# Altium schematic symbol library MCU_NXP_S08.SchLib: 189 symbols (part 4 of 4)
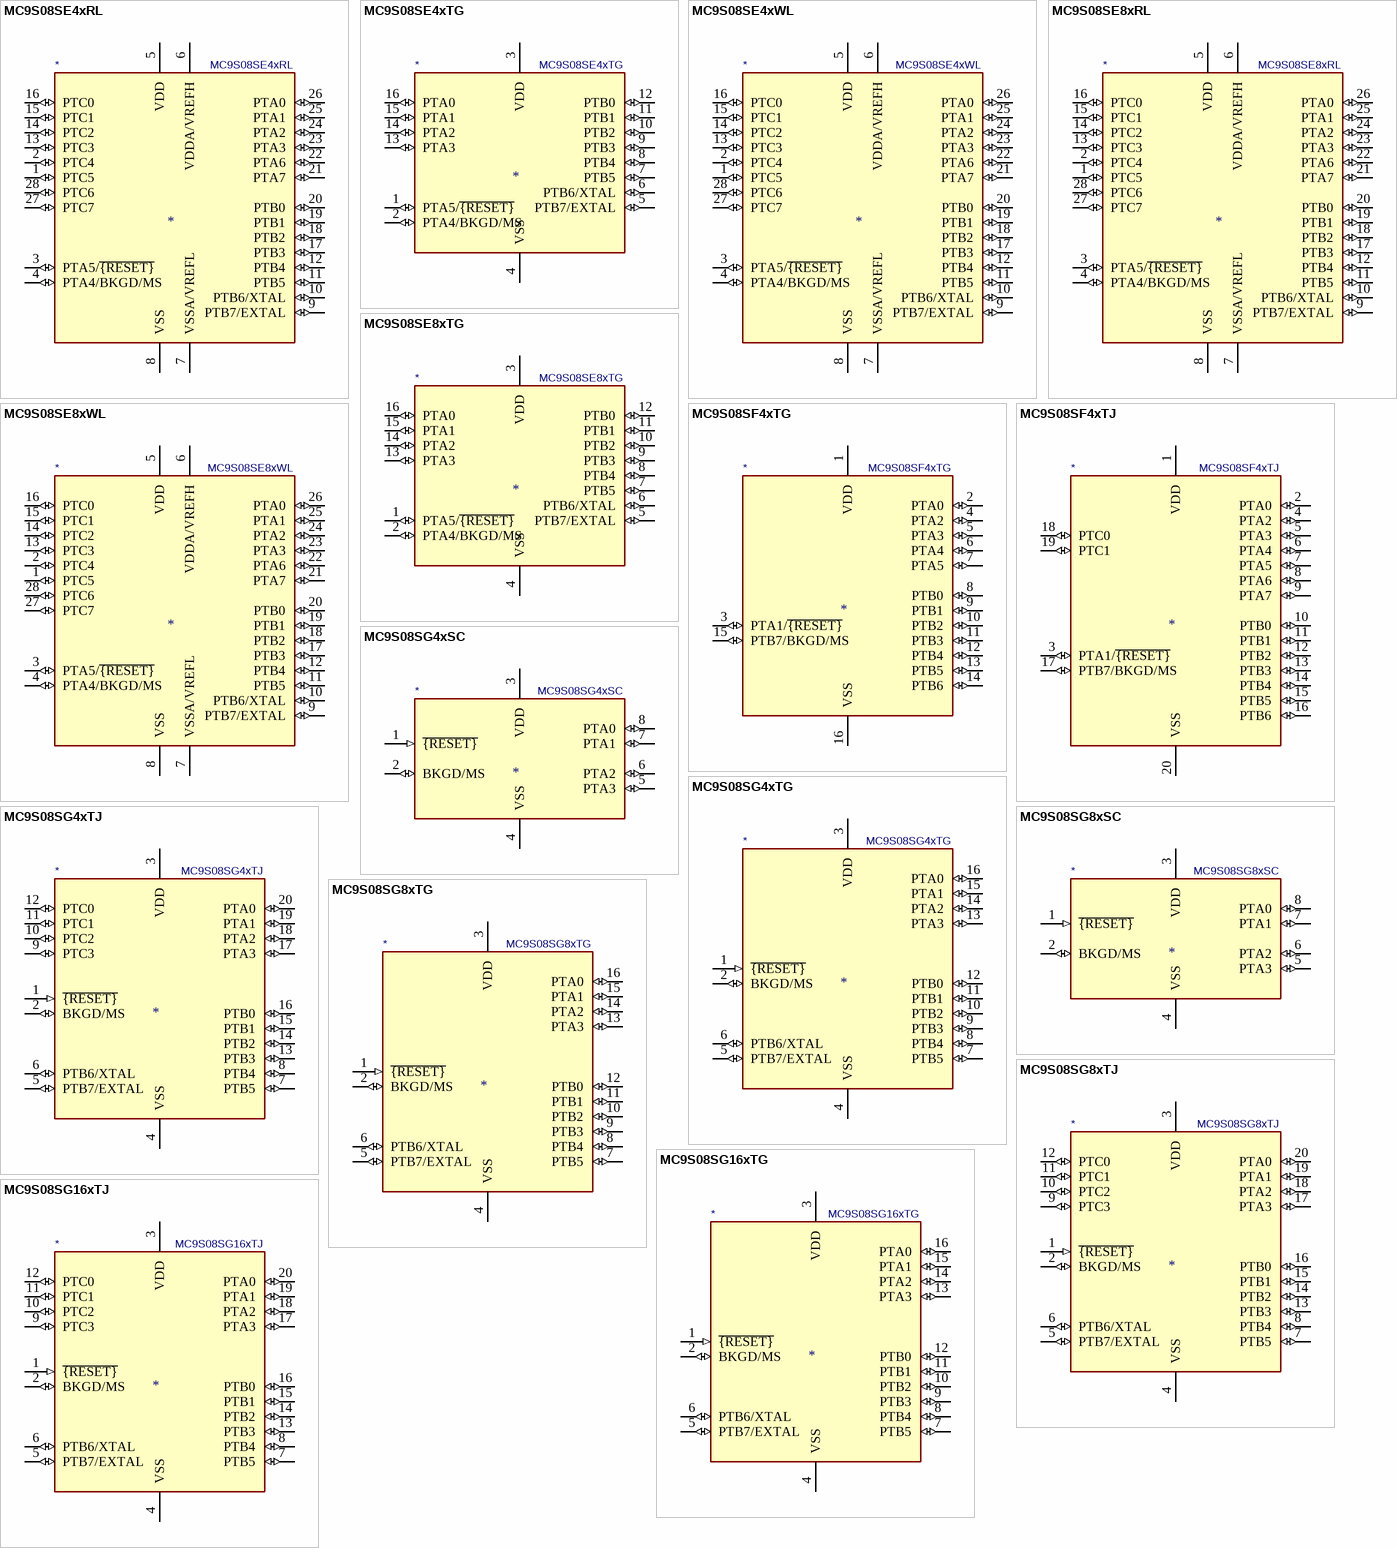
[diagram p22: symbols MC9S08SE4xRL to MC9S08SG16xTJ]

## MC9S08SE4xWL
designator *  value MC9S08SE4xWL
ki_keywords: NXP S08 Microcontroller; ki_description: 8-bit General Purpose Microcontroller, S08 core, 4kB Flash, 256B RAM, SOIC-28; ki_fp_filters: SOIC*7.5x17.9mm*P1.27mm*; Footprint: Package_SO:SOIC-28W_7.5x17.9mm_P1.27mm; Supplier: http://cache.nxp.com/files/microcontrollers/doc/ref_manual/MC9S08SE8RM.pdf
footprint SOIC-28W_7.5x17.9mm_P1.27mm
pins: 1 PTC5 (io), 2 PTC4 (io), 3 PTA5/~{{RESET}} (io), 4 PTA4/BKGD/MS (io), 5 VDD (power), 6 VDDA/VREFH (power), 7 VSSA/VREFL (power), 8 VSS (power), 9 PTB7/EXTAL (io), 10 PTB6/XTAL (io), 11 PTB5 (io), 12 PTB4 (io), 13 PTC3 (io), 14 PTC2 (io), 15 PTC1 (io), 16 PTC0 (io), 17 PTB3 (io), 18 PTB2 (io), 19 PTB1 (io), 20 PTB0 (io), 21 PTA7 (io), 22 PTA6 (io), 23 PTA3 (io), 24 PTA2 (io), 25 PTA1 (io), 26 PTA0 (io), 27 PTC7 (io), 28 PTC6 (io)

## MC9S08SE8xRL
designator *  value MC9S08SE8xRL
ki_keywords: NXP S08 Microcontroller; ki_description: 8-bit General Purpose Microcontroller, S08 core, 8kB Flash, 512B RAM, DIP-28; ki_fp_filters: DIP*15.24mm*; Footprint: Package_DIP:DIP-28_W15.24mm; Supplier: http://cache.nxp.com/files/microcontrollers/doc/ref_manual/MC9S08SE8RM.pdf
footprint DIP-28_W15.24mm
pins: 1 PTC5 (io), 2 PTC4 (io), 3 PTA5/~{{RESET}} (io), 4 PTA4/BKGD/MS (io), 5 VDD (power), 6 VDDA/VREFH (power), 7 VSSA/VREFL (power), 8 VSS (power), 9 PTB7/EXTAL (io), 10 PTB6/XTAL (io), 11 PTB5 (io), 12 PTB4 (io), 13 PTC3 (io), 14 PTC2 (io), 15 PTC1 (io), 16 PTC0 (io), 17 PTB3 (io), 18 PTB2 (io), 19 PTB1 (io), 20 PTB0 (io), 21 PTA7 (io), 22 PTA6 (io), 23 PTA3 (io), 24 PTA2 (io), 25 PTA1 (io), 26 PTA0 (io), 27 PTC7 (io), 28 PTC6 (io)

## MC9S08SE8xTG
designator *  value MC9S08SE8xTG
ki_keywords: NXP S08 Microcontroller; ki_description: 8-bit General Purpose Microcontroller, S08 core, 8kB Flash, 512B RAM, TSSOP-16; ki_fp_filters: TSSOP*4.4x5mm*P0.65mm*; Footprint: Package_SO:TSSOP-16_4.4x5mm_P0.65mm; Supplier: http://cache.nxp.com/files/microcontrollers/doc/ref_manual/MC9S08SE8RM.pdf
footprint TSSOP-16_4.4x5mm_P0.65mm
pins: 1 PTA5/~{{RESET}} (io), 2 PTA4/BKGD/MS (io), 3 VDD (power), 4 VSS (power), 5 PTB7/EXTAL (io), 6 PTB6/XTAL (io), 7 PTB5 (io), 8 PTB4 (io), 9 PTB3 (io), 10 PTB2 (io), 11 PTB1 (io), 12 PTB0 (io), 13 PTA3 (io), 14 PTA2 (io), 15 PTA1 (io), 16 PTA0 (io)

## MC9S08SE8xWL
designator *  value MC9S08SE8xWL
ki_keywords: NXP S08 Microcontroller; ki_description: 8-bit General Purpose Microcontroller, S08 core, 8kB Flash, 512B RAM, SOIC-28; ki_fp_filters: SOIC*7.5x17.9mm*P1.27mm*; Footprint: Package_SO:SOIC-28W_7.5x17.9mm_P1.27mm; Supplier: http://cache.nxp.com/files/microcontrollers/doc/ref_manual/MC9S08SE8RM.pdf
footprint SOIC-28W_7.5x17.9mm_P1.27mm
pins: 1 PTC5 (io), 2 PTC4 (io), 3 PTA5/~{{RESET}} (io), 4 PTA4/BKGD/MS (io), 5 VDD (power), 6 VDDA/VREFH (power), 7 VSSA/VREFL (power), 8 VSS (power), 9 PTB7/EXTAL (io), 10 PTB6/XTAL (io), 11 PTB5 (io), 12 PTB4 (io), 13 PTC3 (io), 14 PTC2 (io), 15 PTC1 (io), 16 PTC0 (io), 17 PTB3 (io), 18 PTB2 (io), 19 PTB1 (io), 20 PTB0 (io), 21 PTA7 (io), 22 PTA6 (io), 23 PTA3 (io), 24 PTA2 (io), 25 PTA1 (io), 26 PTA0 (io), 27 PTC7 (io), 28 PTC6 (io)

## MC9S08SF4xTG
designator *  value MC9S08SF4xTG
ki_keywords: NXP S08 Microcontroller; ki_description: 8-bit Motor Control Microcontroller, S08 core, 4kB Flash, 128B RAM, TSSOP-20; ki_fp_filters: TSSOP*4.4x5mm*P0.65mm*; Footprint: Package_SO:TSSOP-16_4.4x5mm_P0.65mm; Supplier: http://cache.nxp.com/files/microcontrollers/doc/data_sheet/MC9S08SF4RM.pdf
footprint TSSOP-16_4.4x5mm_P0.65mm
pins: 1 VDD (power), 2 PTA0 (io), 3 PTA1/~{{RESET}} (io), 4 PTA2 (io), 5 PTA3 (io), 6 PTA4 (io), 7 PTA5 (io), 8 PTB0 (io), 9 PTB1 (io), 10 PTB2 (io), 11 PTB3 (io), 12 PTB4 (io), 13 PTB5 (io), 14 PTB6 (io), 15 PTB7/BKGD/MS (io), 16 VSS (power)

## MC9S08SF4xTJ
designator *  value MC9S08SF4xTJ
ki_keywords: NXP S08 Microcontroller; ki_description: 8-bit Motor Control Microcontroller, S08 core, 4kB Flash, 128B RAM, TSSOP-20; ki_fp_filters: TSSOP*4.4x6.5mm*P0.65mm*; Footprint: Package_SO:TSSOP-20_4.4x6.5mm_P0.65mm; Supplier: http://cache.nxp.com/files/microcontrollers/doc/data_sheet/MC9S08SF4RM.pdf
footprint TSSOP-20_4.4x6.5mm_P0.65mm
pins: 1 VDD (power), 2 PTA0 (io), 3 PTA1/~{{RESET}} (io), 4 PTA2 (io), 5 PTA3 (io), 6 PTA4 (io), 7 PTA5 (io), 8 PTA6 (io), 9 PTA7 (io), 10 PTB0 (io), 11 PTB1 (io), 12 PTB2 (io), 13 PTB3 (io), 14 PTB4 (io), 15 PTB5 (io), 16 PTB6 (io), 17 PTB7/BKGD/MS (io), 18 PTC0 (io), 19 PTC1 (io), 20 VSS (power)

## MC9S08SG4xSC
designator *  value MC9S08SG4xSC
ki_keywords: NXP S08 Microcontroller; ki_description: 8-bit Small Package Microcontroller, S08 core, 4kB Flash, 256B RAM, SOIC-8; ki_fp_filters: SOIC*3.9x4.9mm*P1.27mm*; Footprint: Package_SO:SOIC-8_3.9x4.9mm_P1.27mm; Supplier: http://cache.nxp.com/files/microcontrollers/doc/data_sheet/MC9S08SG8.pdf
footprint SOIC-8_3.9x4.9mm_P1.27mm
pins: 1 ~{{RESET}} (in), 2 BKGD/MS (io), 3 VDD (power), 4 VSS (power), 5 PTA3 (io), 6 PTA2 (io), 7 PTA1 (io), 8 PTA0 (io)

## MC9S08SG4xTG
designator *  value MC9S08SG4xTG
ki_keywords: NXP S08 Microcontroller; ki_description: 8-bit Small Package Microcontroller, S08 core, 4kB Flash, 256B RAM, TSSOP-16; ki_fp_filters: TSSOP*4.4x5mm*P0.65mm*; Footprint: Package_SO:TSSOP-16_4.4x5mm_P0.65mm; Supplier: http://cache.nxp.com/files/microcontrollers/doc/data_sheet/MC9S08SG8.pdf
footprint TSSOP-16_4.4x5mm_P0.65mm
pins: 1 ~{{RESET}} (in), 2 BKGD/MS (io), 3 VDD (power), 4 VSS (power), 5 PTB7/EXTAL (io), 6 PTB6/XTAL (io), 7 PTB5 (io), 8 PTB4 (io), 9 PTB3 (io), 10 PTB2 (io), 11 PTB1 (io), 12 PTB0 (io), 13 PTA3 (io), 14 PTA2 (io), 15 PTA1 (io), 16 PTA0 (io)

## MC9S08SG4xTJ
designator *  value MC9S08SG4xTJ
ki_keywords: NXP S08 Microcontroller; ki_description: 8-bit Small Package Microcontroller, S08 core, 4kB Flash, 256B RAM, TSSOP-20; ki_fp_filters: TSSOP*4.4x6.5mm*P0.65mm*; Footprint: Package_SO:TSSOP-20_4.4x6.5mm_P0.65mm; Supplier: http://cache.nxp.com/files/microcontrollers/doc/data_sheet/MC9S08SG8.pdf
footprint TSSOP-20_4.4x6.5mm_P0.65mm
pins: 1 ~{{RESET}} (in), 2 BKGD/MS (io), 3 VDD (power), 4 VSS (power), 5 PTB7/EXTAL (io), 6 PTB6/XTAL (io), 7 PTB5 (io), 8 PTB4 (io), 9 PTC3 (io), 10 PTC2 (io), 11 PTC1 (io), 12 PTC0 (io), 13 PTB3 (io), 14 PTB2 (io), 15 PTB1 (io), 16 PTB0 (io), 17 PTA3 (io), 18 PTA2 (io), 19 PTA1 (io), 20 PTA0 (io)

## MC9S08SG8xSC
designator *  value MC9S08SG8xSC
ki_keywords: NXP S08 Microcontroller; ki_description: 8-bit Small Package Microcontroller, S08 core, 8kB Flash, 512B RAM, SOIC-8; ki_fp_filters: SOIC*3.9x4.9mm*P1.27mm*; Footprint: Package_SO:SOIC-8_3.9x4.9mm_P1.27mm; Supplier: http://cache.nxp.com/files/microcontrollers/doc/data_sheet/MC9S08SG8.pdf
footprint SOIC-8_3.9x4.9mm_P1.27mm
pins: 1 ~{{RESET}} (in), 2 BKGD/MS (io), 3 VDD (power), 4 VSS (power), 5 PTA3 (io), 6 PTA2 (io), 7 PTA1 (io), 8 PTA0 (io)

## MC9S08SG8xTG
designator *  value MC9S08SG8xTG
ki_keywords: NXP S08 Microcontroller; ki_description: 8-bit Small Package Microcontroller, S08 core, 8kB Flash, 512B RAM, TSSOP-16; ki_fp_filters: TSSOP*4.4x5mm*P0.65mm*; Footprint: Package_SO:TSSOP-16_4.4x5mm_P0.65mm; Supplier: http://cache.nxp.com/files/microcontrollers/doc/data_sheet/MC9S08SG8.pdf
footprint TSSOP-16_4.4x5mm_P0.65mm
pins: 1 ~{{RESET}} (in), 2 BKGD/MS (io), 3 VDD (power), 4 VSS (power), 5 PTB7/EXTAL (io), 6 PTB6/XTAL (io), 7 PTB5 (io), 8 PTB4 (io), 9 PTB3 (io), 10 PTB2 (io), 11 PTB1 (io), 12 PTB0 (io), 13 PTA3 (io), 14 PTA2 (io), 15 PTA1 (io), 16 PTA0 (io)

## MC9S08SG8xTJ
designator *  value MC9S08SG8xTJ
ki_keywords: NXP S08 Microcontroller; ki_description: 8-bit Small Package Microcontroller, S08 core, 8kB Flash, 512B RAM, TSSOP-20; ki_fp_filters: TSSOP*4.4x6.5mm*P0.65mm*; Footprint: Package_SO:TSSOP-20_4.4x6.5mm_P0.65mm; Supplier: http://cache.nxp.com/files/microcontrollers/doc/data_sheet/MC9S08SG8.pdf
footprint TSSOP-20_4.4x6.5mm_P0.65mm
pins: 1 ~{{RESET}} (in), 2 BKGD/MS (io), 3 VDD (power), 4 VSS (power), 5 PTB7/EXTAL (io), 6 PTB6/XTAL (io), 7 PTB5 (io), 8 PTB4 (io), 9 PTC3 (io), 10 PTC2 (io), 11 PTC1 (io), 12 PTC0 (io), 13 PTB3 (io), 14 PTB2 (io), 15 PTB1 (io), 16 PTB0 (io), 17 PTA3 (io), 18 PTA2 (io), 19 PTA1 (io), 20 PTA0 (io)

## MC9S08SG16xTG
designator *  value MC9S08SG16xTG
ki_keywords: NXP S08 Microcontroller; ki_description: 8-bit Small Package Microcontroller, S08 core, 16kB Flash, 1kB RAM, TSSOP-16; ki_fp_filters: TSSOP*4.4x5mm*P0.65mm*; Footprint: Package_SO:TSSOP-16_4.4x5mm_P0.65mm; Supplier: http://cache.nxp.com/files/microcontrollers/doc/data_sheet/MC9S08SG32.pdf
footprint TSSOP-16_4.4x5mm_P0.65mm
pins: 1 ~{{RESET}} (in), 2 BKGD/MS (io), 3 VDD (power), 4 VSS (power), 5 PTB7/EXTAL (io), 6 PTB6/XTAL (io), 7 PTB5 (io), 8 PTB4 (io), 9 PTB3 (io), 10 PTB2 (io), 11 PTB1 (io), 12 PTB0 (io), 13 PTA3 (io), 14 PTA2 (io), 15 PTA1 (io), 16 PTA0 (io)

## MC9S08SG16xTJ
designator *  value MC9S08SG16xTJ
ki_keywords: NXP S08 Microcontroller; ki_description: 8-bit Small Package Microcontroller, S08 core, 16kB Flash, 1kB RAM, TSSOP-20; ki_fp_filters: TSSOP*4.4x6.5mm*P0.65mm*; Footprint: Package_SO:TSSOP-20_4.4x6.5mm_P0.65mm; Supplier: http://cache.nxp.com/files/microcontrollers/doc/data_sheet/MC9S08SG32.pdf
footprint TSSOP-20_4.4x6.5mm_P0.65mm
pins: 1 ~{{RESET}} (in), 2 BKGD/MS (io), 3 VDD (power), 4 VSS (power), 5 PTB7/EXTAL (io), 6 PTB6/XTAL (io), 7 PTB5 (io), 8 PTB4 (io), 9 PTC3 (io), 10 PTC2 (io), 11 PTC1 (io), 12 PTC0 (io), 13 PTB3 (io), 14 PTB2 (io), 15 PTB1 (io), 16 PTB0 (io), 17 PTA3 (io), 18 PTA2 (io), 19 PTA1 (io), 20 PTA0 (io)

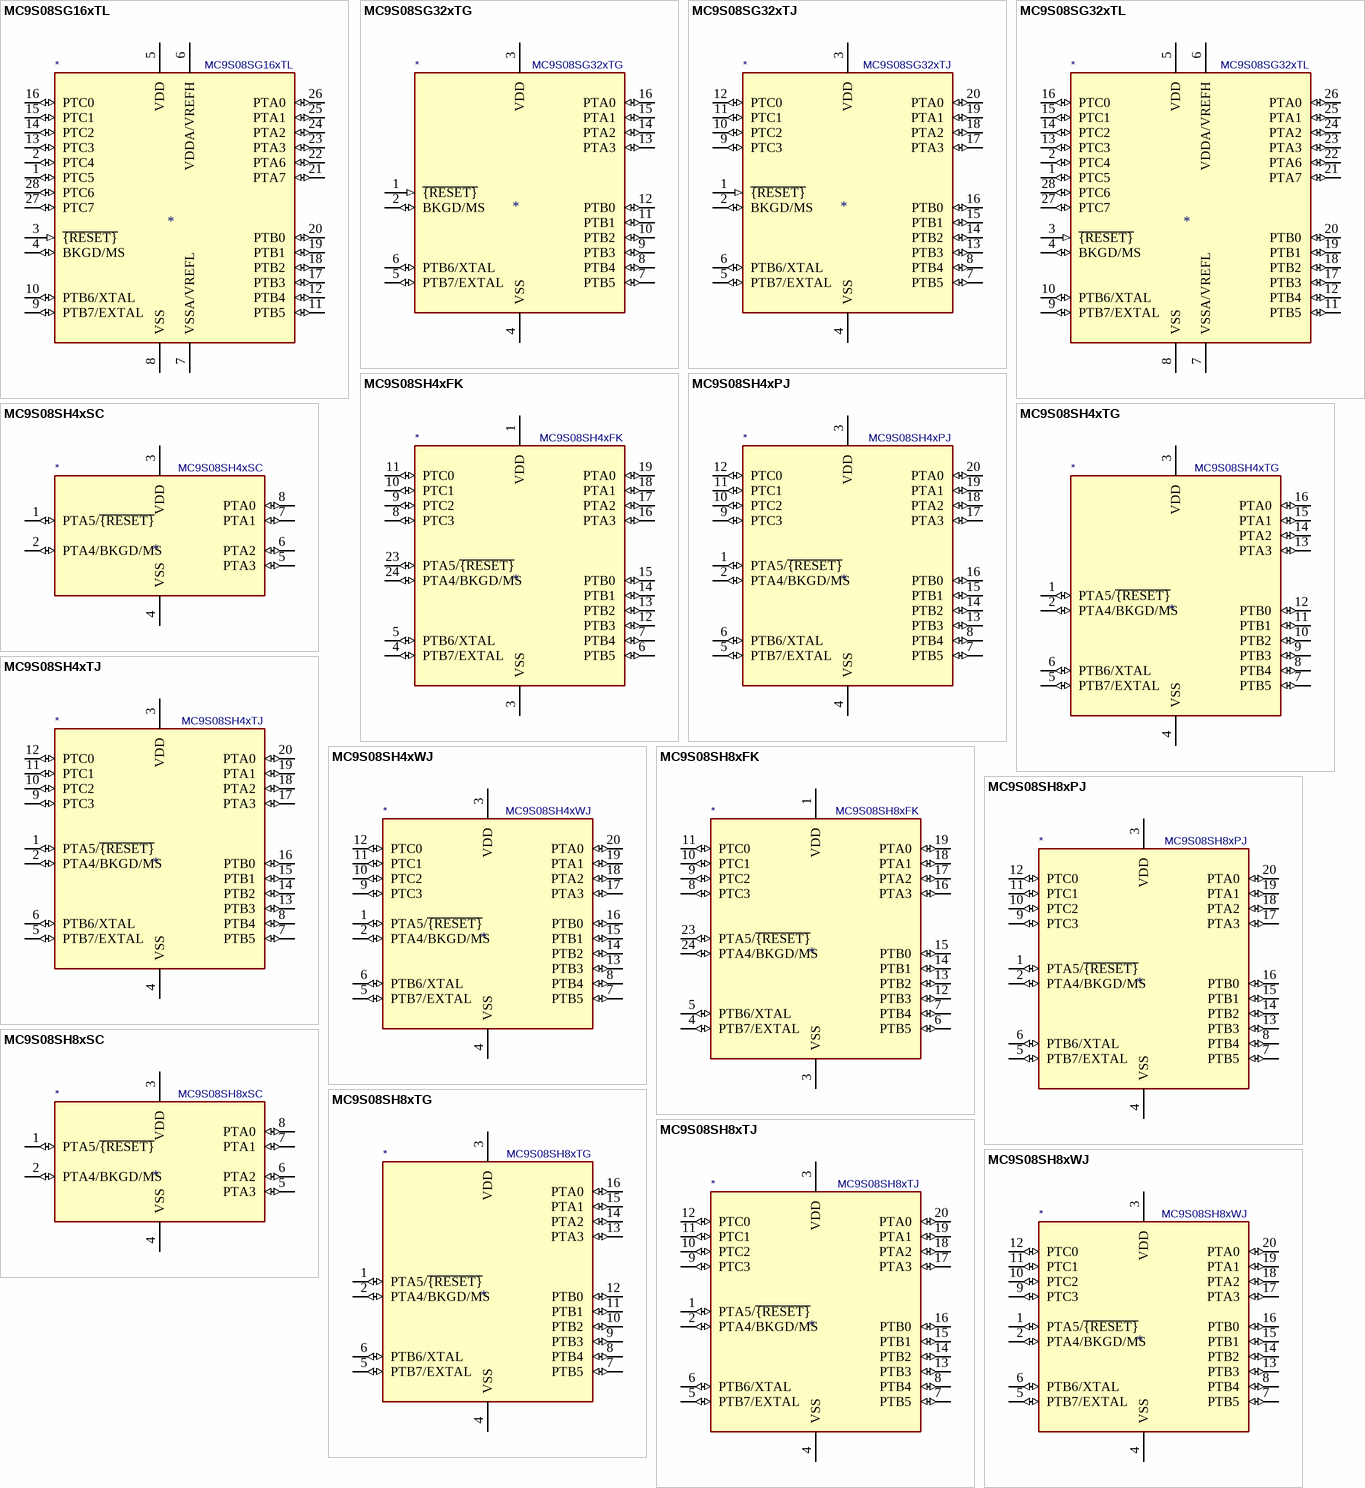
[diagram p17: symbols MC9S08SG16xTL to MC9S08SH8xWJ]

## MC9S08SG16xTL
designator *  value MC9S08SG16xTL
ki_keywords: NXP S08 Microcontroller; ki_description: 8-bit Small Package Microcontroller, S08 core, 16kB Flash, 1kB RAM, TSSOP-28; ki_fp_filters: TSSOP*4.4x9.7mm*P0.65mm*; Footprint: Package_SO:TSSOP-28_4.4x9.7mm_P0.65mm; Supplier: http://cache.nxp.com/files/microcontrollers/doc/data_sheet/MC9S08SG32.pdf
footprint TSSOP-28_4.4x9.7mm_P0.65mm
pins: 1 PTC5 (io), 2 PTC4 (io), 3 ~{{RESET}} (in), 4 BKGD/MS (io), 5 VDD (power), 6 VDDA/VREFH (power), 7 VSSA/VREFL (power), 8 VSS (power), 9 PTB7/EXTAL (io), 10 PTB6/XTAL (io), 11 PTB5 (io), 12 PTB4 (io), 13 PTC3 (io), 14 PTC2 (io), 15 PTC1 (io), 16 PTC0 (io), 17 PTB3 (io), 18 PTB2 (io), 19 PTB1 (io), 20 PTB0 (io), 21 PTA7 (io), 22 PTA6 (io), 23 PTA3 (io), 24 PTA2 (io), 25 PTA1 (io), 26 PTA0 (io), 27 PTC7 (io), 28 PTC6 (io)

## MC9S08SG32xTG
designator *  value MC9S08SG32xTG
ki_keywords: NXP S08 Microcontroller; ki_description: 8-bit Small Package Microcontroller, S08 core, 32kB Flash, 1kB RAM, TSSOP-16; ki_fp_filters: TSSOP*4.4x5mm*P0.65mm*; Footprint: Package_SO:TSSOP-16_4.4x5mm_P0.65mm; Supplier: http://cache.nxp.com/files/microcontrollers/doc/data_sheet/MC9S08SG32.pdf
footprint TSSOP-16_4.4x5mm_P0.65mm
pins: 1 ~{{RESET}} (in), 2 BKGD/MS (io), 3 VDD (power), 4 VSS (power), 5 PTB7/EXTAL (io), 6 PTB6/XTAL (io), 7 PTB5 (io), 8 PTB4 (io), 9 PTB3 (io), 10 PTB2 (io), 11 PTB1 (io), 12 PTB0 (io), 13 PTA3 (io), 14 PTA2 (io), 15 PTA1 (io), 16 PTA0 (io)

## MC9S08SG32xTJ
designator *  value MC9S08SG32xTJ
ki_keywords: NXP S08 Microcontroller; ki_description: 8-bit Small Package Microcontroller, S08 core, 32kB Flash, 1kB RAM, TSSOP-20; ki_fp_filters: TSSOP*4.4x6.5mm*P0.65mm*; Footprint: Package_SO:TSSOP-20_4.4x6.5mm_P0.65mm; Supplier: http://cache.nxp.com/files/microcontrollers/doc/data_sheet/MC9S08SG32.pdf
footprint TSSOP-20_4.4x6.5mm_P0.65mm
pins: 1 ~{{RESET}} (in), 2 BKGD/MS (io), 3 VDD (power), 4 VSS (power), 5 PTB7/EXTAL (io), 6 PTB6/XTAL (io), 7 PTB5 (io), 8 PTB4 (io), 9 PTC3 (io), 10 PTC2 (io), 11 PTC1 (io), 12 PTC0 (io), 13 PTB3 (io), 14 PTB2 (io), 15 PTB1 (io), 16 PTB0 (io), 17 PTA3 (io), 18 PTA2 (io), 19 PTA1 (io), 20 PTA0 (io)

## MC9S08SG32xTL
designator *  value MC9S08SG32xTL
ki_keywords: NXP S08 Microcontroller; ki_description: 8-bit Small Package Microcontroller, S08 core, 32kB Flash, 1kB RAM, TSSOP-28; ki_fp_filters: TSSOP*4.4x9.7mm*P0.65mm*; Footprint: Package_SO:TSSOP-28_4.4x9.7mm_P0.65mm; Supplier: http://cache.nxp.com/files/microcontrollers/doc/data_sheet/MC9S08SG32.pdf
footprint TSSOP-28_4.4x9.7mm_P0.65mm
pins: 1 PTC5 (io), 2 PTC4 (io), 3 ~{{RESET}} (in), 4 BKGD/MS (io), 5 VDD (power), 6 VDDA/VREFH (power), 7 VSSA/VREFL (power), 8 VSS (power), 9 PTB7/EXTAL (io), 10 PTB6/XTAL (io), 11 PTB5 (io), 12 PTB4 (io), 13 PTC3 (io), 14 PTC2 (io), 15 PTC1 (io), 16 PTC0 (io), 17 PTB3 (io), 18 PTB2 (io), 19 PTB1 (io), 20 PTB0 (io), 21 PTA7 (io), 22 PTA6 (io), 23 PTA3 (io), 24 PTA2 (io), 25 PTA1 (io), 26 PTA0 (io), 27 PTC7 (io), 28 PTC6 (io)

## MC9S08SH4xFK
designator *  value MC9S08SH4xFK
ki_keywords: NXP S08 Microcontroller; ki_description: 8-bit General Purpose Microcontroller, S08 core, 4kB Flash, 256B RAM, QFN-24; ki_fp_filters: QFN*4x4mm*P0.5mm*; Footprint: Package_DFN_QFN:QFN-24-1EP_4x4mm_P0.5mm_EP2.6x2.6mm; Supplier: http://cache.nxp.com/files/microcontrollers/doc/data_sheet/MC9S08SH8.pdf
footprint QFN-24-1EP_4x4mm_P0.5mm_EP2.6x2.6mm
pins: 1 VDD (power), 3 VSS (power), 4 PTB7/EXTAL (io), 5 PTB6/XTAL (io), 6 PTB5 (io), 7 PTB4 (io), 8 PTC3 (io), 9 PTC2 (io), 10 PTC1 (io), 11 PTC0 (io), 12 PTB3 (io), 13 PTB2 (io), 14 PTB1 (io), 15 PTB0 (io), 16 PTA3 (io), 17 PTA2 (io), 18 PTA1 (io), 19 PTA0 (io), 23 PTA5/~{{RESET}} (io), 24 PTA4/BKGD/MS (io)

## MC9S08SH4xPJ
designator *  value MC9S08SH4xPJ
ki_keywords: NXP S08 Microcontroller; ki_description: 8-bit General Purpose Microcontroller, S08 core, 4kB Flash, 256B RAM, DIP-20; ki_fp_filters: DIP*7.62mm*; Footprint: Package_DIP:DIP-20_W7.62mm; Supplier: http://cache.nxp.com/files/microcontrollers/doc/data_sheet/MC9S08SH8.pdf
footprint DIP-20_W7.62mm
pins: 1 PTA5/~{{RESET}} (io), 2 PTA4/BKGD/MS (io), 3 VDD (power), 4 VSS (power), 5 PTB7/EXTAL (io), 6 PTB6/XTAL (io), 7 PTB5 (io), 8 PTB4 (io), 9 PTC3 (io), 10 PTC2 (io), 11 PTC1 (io), 12 PTC0 (io), 13 PTB3 (io), 14 PTB2 (io), 15 PTB1 (io), 16 PTB0 (io), 17 PTA3 (io), 18 PTA2 (io), 19 PTA1 (io), 20 PTA0 (io)

## MC9S08SH4xSC
designator *  value MC9S08SH4xSC
ki_keywords: NXP S08 Microcontroller; ki_description: 8-bit General Purpose Microcontroller, S08 core, 4kB Flash, 256B RAM, SOIC-8; ki_fp_filters: SOIC*3.9x4.9mm*P1.27mm*; Footprint: Package_SO:SOIC-8_3.9x4.9mm_P1.27mm; Supplier: http://cache.nxp.com/files/microcontrollers/doc/data_sheet/MC9S08SH8.pdf
footprint SOIC-8_3.9x4.9mm_P1.27mm
pins: 1 PTA5/~{{RESET}} (io), 2 PTA4/BKGD/MS (io), 3 VDD (power), 4 VSS (power), 5 PTA3 (io), 6 PTA2 (io), 7 PTA1 (io), 8 PTA0 (io)

## MC9S08SH4xTG
designator *  value MC9S08SH4xTG
ki_keywords: NXP S08 Microcontroller; ki_description: 8-bit General Purpose Microcontroller, S08 core, 4kB Flash, 256B RAM, TSSOP-16; ki_fp_filters: TSSOP*4.4x5mm*P0.65mm*; Footprint: Package_SO:TSSOP-16_4.4x5mm_P0.65mm; Supplier: http://cache.nxp.com/files/microcontrollers/doc/data_sheet/MC9S08SH8.pdf
footprint TSSOP-16_4.4x5mm_P0.65mm
pins: 1 PTA5/~{{RESET}} (io), 2 PTA4/BKGD/MS (io), 3 VDD (power), 4 VSS (power), 5 PTB7/EXTAL (io), 6 PTB6/XTAL (io), 7 PTB5 (io), 8 PTB4 (io), 9 PTB3 (io), 10 PTB2 (io), 11 PTB1 (io), 12 PTB0 (io), 13 PTA3 (io), 14 PTA2 (io), 15 PTA1 (io), 16 PTA0 (io)

## MC9S08SH4xTJ
designator *  value MC9S08SH4xTJ
ki_keywords: NXP S08 Microcontroller; ki_description: 8-bit General Purpose Microcontroller, S08 core, 4kB Flash, 256B RAM, TSSOP-20; ki_fp_filters: TSSOP*4.4x6.5mm*P0.65mm*; Footprint: Package_SO:TSSOP-20_4.4x6.5mm_P0.65mm; Supplier: http://cache.nxp.com/files/microcontrollers/doc/data_sheet/MC9S08SH8.pdf
footprint TSSOP-20_4.4x6.5mm_P0.65mm
pins: 1 PTA5/~{{RESET}} (io), 2 PTA4/BKGD/MS (io), 3 VDD (power), 4 VSS (power), 5 PTB7/EXTAL (io), 6 PTB6/XTAL (io), 7 PTB5 (io), 8 PTB4 (io), 9 PTC3 (io), 10 PTC2 (io), 11 PTC1 (io), 12 PTC0 (io), 13 PTB3 (io), 14 PTB2 (io), 15 PTB1 (io), 16 PTB0 (io), 17 PTA3 (io), 18 PTA2 (io), 19 PTA1 (io), 20 PTA0 (io)

## MC9S08SH4xWJ
designator *  value MC9S08SH4xWJ
ki_keywords: NXP S08 Microcontroller; ki_description: 8-bit General Purpose Microcontroller, S08 core, 4kB Flash, 256B RAM, SOIC-20; ki_fp_filters: SOIC*7.5x12.8mm*P1.27mm*; Footprint: Package_SO:SOIC-20W_7.5x12.8mm_P1.27mm; Supplier: http://cache.nxp.com/files/microcontrollers/doc/data_sheet/MC9S08SH8.pdf
footprint SOIC-20W_7.5x12.8mm_P1.27mm
pins: 1 PTA5/~{{RESET}} (io), 2 PTA4/BKGD/MS (io), 3 VDD (power), 4 VSS (power), 5 PTB7/EXTAL (io), 6 PTB6/XTAL (io), 7 PTB5 (io), 8 PTB4 (io), 9 PTC3 (io), 10 PTC2 (io), 11 PTC1 (io), 12 PTC0 (io), 13 PTB3 (io), 14 PTB2 (io), 15 PTB1 (io), 16 PTB0 (io), 17 PTA3 (io), 18 PTA2 (io), 19 PTA1 (io), 20 PTA0 (io)

## MC9S08SH8xFK
designator *  value MC9S08SH8xFK
ki_keywords: NXP S08 Microcontroller; ki_description: 8-bit General Purpose Microcontroller, S08 core, 8kB Flash, 512B RAM, QFN-24; ki_fp_filters: QFN*4x4mm*P0.5mm*; Footprint: Package_DFN_QFN:QFN-24-1EP_4x4mm_P0.5mm_EP2.6x2.6mm; Supplier: http://cache.nxp.com/files/microcontrollers/doc/data_sheet/MC9S08SH8.pdf
footprint QFN-24-1EP_4x4mm_P0.5mm_EP2.6x2.6mm
pins: 1 VDD (power), 3 VSS (power), 4 PTB7/EXTAL (io), 5 PTB6/XTAL (io), 6 PTB5 (io), 7 PTB4 (io), 8 PTC3 (io), 9 PTC2 (io), 10 PTC1 (io), 11 PTC0 (io), 12 PTB3 (io), 13 PTB2 (io), 14 PTB1 (io), 15 PTB0 (io), 16 PTA3 (io), 17 PTA2 (io), 18 PTA1 (io), 19 PTA0 (io), 23 PTA5/~{{RESET}} (io), 24 PTA4/BKGD/MS (io)

## MC9S08SH8xPJ
designator *  value MC9S08SH8xPJ
ki_keywords: NXP S08 Microcontroller; ki_description: 8-bit General Purpose Microcontroller, S08 core, 8kB Flash, 512B RAM, DIP-20; ki_fp_filters: DIP*7.62mm*; Footprint: Package_DIP:DIP-20_W7.62mm; Supplier: http://cache.nxp.com/files/microcontrollers/doc/data_sheet/MC9S08SH8.pdf
footprint DIP-20_W7.62mm
pins: 1 PTA5/~{{RESET}} (io), 2 PTA4/BKGD/MS (io), 3 VDD (power), 4 VSS (power), 5 PTB7/EXTAL (io), 6 PTB6/XTAL (io), 7 PTB5 (io), 8 PTB4 (io), 9 PTC3 (io), 10 PTC2 (io), 11 PTC1 (io), 12 PTC0 (io), 13 PTB3 (io), 14 PTB2 (io), 15 PTB1 (io), 16 PTB0 (io), 17 PTA3 (io), 18 PTA2 (io), 19 PTA1 (io), 20 PTA0 (io)

## MC9S08SH8xSC
designator *  value MC9S08SH8xSC
ki_keywords: NXP S08 Microcontroller; ki_description: 8-bit General Purpose Microcontroller, S08 core, 8kB Flash, 512B RAM, SOIC-8; ki_fp_filters: SOIC*3.9x4.9mm*P1.27mm*; Footprint: Package_SO:SOIC-8_3.9x4.9mm_P1.27mm; Supplier: http://cache.nxp.com/files/microcontrollers/doc/data_sheet/MC9S08SH8.pdf
footprint SOIC-8_3.9x4.9mm_P1.27mm
pins: 1 PTA5/~{{RESET}} (io), 2 PTA4/BKGD/MS (io), 3 VDD (power), 4 VSS (power), 5 PTA3 (io), 6 PTA2 (io), 7 PTA1 (io), 8 PTA0 (io)

## MC9S08SH8xTG
designator *  value MC9S08SH8xTG
ki_keywords: NXP S08 Microcontroller; ki_description: 8-bit General Purpose Microcontroller, S08 core, 8kB Flash, 512B RAM, TSSOP-16; ki_fp_filters: TSSOP*4.4x5mm*P0.65mm*; Footprint: Package_SO:TSSOP-16_4.4x5mm_P0.65mm; Supplier: http://cache.nxp.com/files/microcontrollers/doc/data_sheet/MC9S08SH8.pdf
footprint TSSOP-16_4.4x5mm_P0.65mm
pins: 1 PTA5/~{{RESET}} (io), 2 PTA4/BKGD/MS (io), 3 VDD (power), 4 VSS (power), 5 PTB7/EXTAL (io), 6 PTB6/XTAL (io), 7 PTB5 (io), 8 PTB4 (io), 9 PTB3 (io), 10 PTB2 (io), 11 PTB1 (io), 12 PTB0 (io), 13 PTA3 (io), 14 PTA2 (io), 15 PTA1 (io), 16 PTA0 (io)

## MC9S08SH8xTJ
designator *  value MC9S08SH8xTJ
ki_keywords: NXP S08 Microcontroller; ki_description: 8-bit General Purpose Microcontroller, S08 core, 8kB Flash, 512B RAM, TSSOP-20; ki_fp_filters: TSSOP*4.4x6.5mm*P0.65mm*; Footprint: Package_SO:TSSOP-20_4.4x6.5mm_P0.65mm; Supplier: http://cache.nxp.com/files/microcontrollers/doc/data_sheet/MC9S08SH8.pdf
footprint TSSOP-20_4.4x6.5mm_P0.65mm
pins: 1 PTA5/~{{RESET}} (io), 2 PTA4/BKGD/MS (io), 3 VDD (power), 4 VSS (power), 5 PTB7/EXTAL (io), 6 PTB6/XTAL (io), 7 PTB5 (io), 8 PTB4 (io), 9 PTC3 (io), 10 PTC2 (io), 11 PTC1 (io), 12 PTC0 (io), 13 PTB3 (io), 14 PTB2 (io), 15 PTB1 (io), 16 PTB0 (io), 17 PTA3 (io), 18 PTA2 (io), 19 PTA1 (io), 20 PTA0 (io)

## MC9S08SH8xWJ
designator *  value MC9S08SH8xWJ
ki_keywords: NXP S08 Microcontroller; ki_description: 8-bit General Purpose Microcontroller, S08 core, 8kB Flash, 512B RAM, SOIC-20; ki_fp_filters: SOIC*7.5x12.8mm*P1.27mm*; Footprint: Package_SO:SOIC-20W_7.5x12.8mm_P1.27mm; Supplier: http://cache.nxp.com/files/microcontrollers/doc/data_sheet/MC9S08SH8.pdf
footprint SOIC-20W_7.5x12.8mm_P1.27mm
pins: 1 PTA5/~{{RESET}} (io), 2 PTA4/BKGD/MS (io), 3 VDD (power), 4 VSS (power), 5 PTB7/EXTAL (io), 6 PTB6/XTAL (io), 7 PTB5 (io), 8 PTB4 (io), 9 PTC3 (io), 10 PTC2 (io), 11 PTC1 (io), 12 PTC0 (io), 13 PTB3 (io), 14 PTB2 (io), 15 PTB1 (io), 16 PTB0 (io), 17 PTA3 (io), 18 PTA2 (io), 19 PTA1 (io), 20 PTA0 (io)

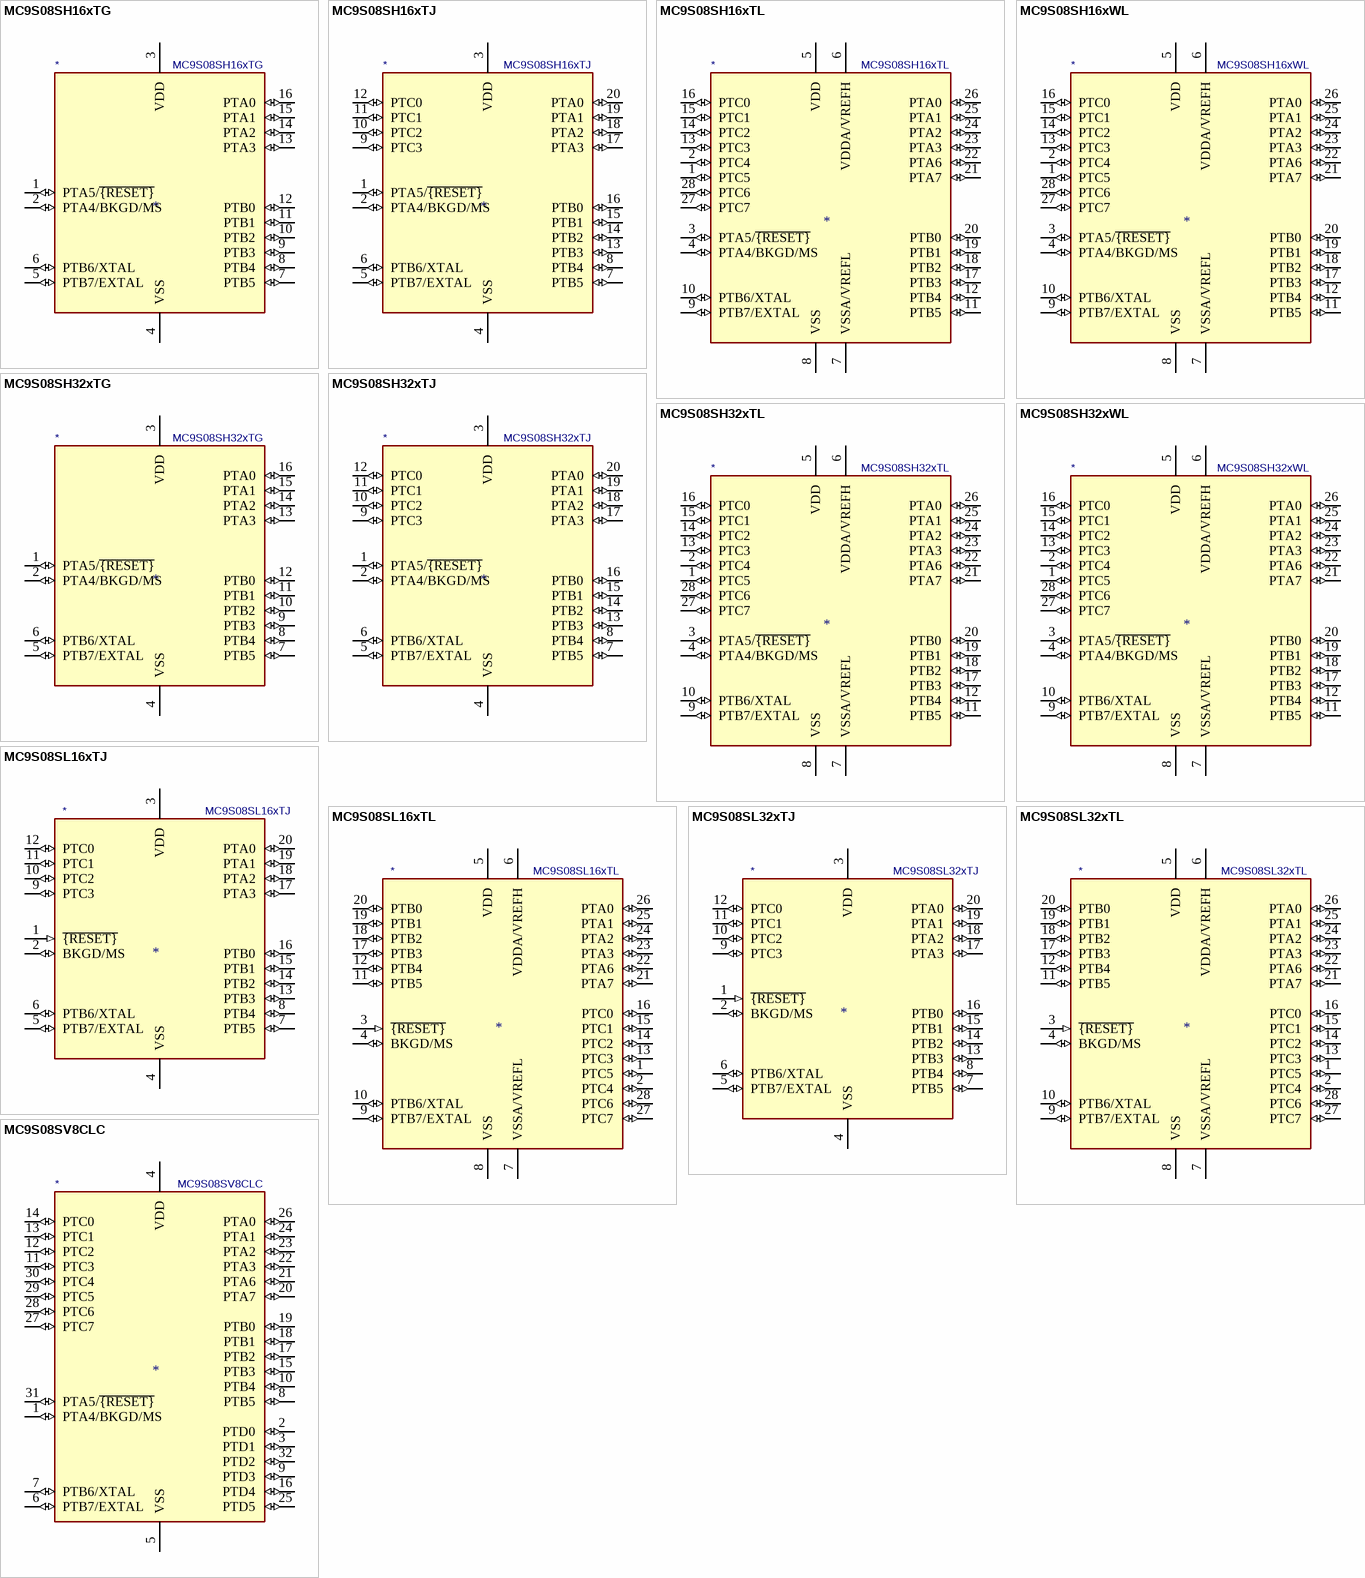
[diagram p18: symbols MC9S08SH16xTG to MC9S08SV8CLC]

## MC9S08SH16xTG
designator *  value MC9S08SH16xTG
ki_keywords: NXP S08 Microcontroller; ki_description: 8-bit General Purpose Microcontroller, S08 core, 16kB Flash, 1kB RAM, TSSOP-16; ki_fp_filters: TSSOP*4.4x5mm*P0.65mm*; Footprint: Package_SO:TSSOP-16_4.4x5mm_P0.65mm; Supplier: http://cache.nxp.com/files/microcontrollers/doc/data_sheet/MC9S08SH32.pdf
footprint TSSOP-16_4.4x5mm_P0.65mm
pins: 1 PTA5/~{{RESET}} (io), 2 PTA4/BKGD/MS (io), 3 VDD (power), 4 VSS (power), 5 PTB7/EXTAL (io), 6 PTB6/XTAL (io), 7 PTB5 (io), 8 PTB4 (io), 9 PTB3 (io), 10 PTB2 (io), 11 PTB1 (io), 12 PTB0 (io), 13 PTA3 (io), 14 PTA2 (io), 15 PTA1 (io), 16 PTA0 (io)

## MC9S08SH16xTJ
designator *  value MC9S08SH16xTJ
ki_keywords: NXP S08 Microcontroller; ki_description: 8-bit General Purpose Microcontroller, S08 core, 16kB Flash, 1kB RAM, TSSOP-20; ki_fp_filters: TSSOP*4.4x6.5mm*P0.65mm*; Footprint: Package_SO:TSSOP-20_4.4x6.5mm_P0.65mm; Supplier: http://cache.nxp.com/files/microcontrollers/doc/data_sheet/MC9S08SH32.pdf
footprint TSSOP-20_4.4x6.5mm_P0.65mm
pins: 1 PTA5/~{{RESET}} (io), 2 PTA4/BKGD/MS (io), 3 VDD (power), 4 VSS (power), 5 PTB7/EXTAL (io), 6 PTB6/XTAL (io), 7 PTB5 (io), 8 PTB4 (io), 9 PTC3 (io), 10 PTC2 (io), 11 PTC1 (io), 12 PTC0 (io), 13 PTB3 (io), 14 PTB2 (io), 15 PTB1 (io), 16 PTB0 (io), 17 PTA3 (io), 18 PTA2 (io), 19 PTA1 (io), 20 PTA0 (io)

## MC9S08SH16xTL
designator *  value MC9S08SH16xTL
ki_keywords: NXP S08 Microcontroller; ki_description: 8-bit General Purpose Microcontroller, S08 core, 16kB Flash, 1kB RAM, TSSOP-28; ki_fp_filters: TSSOP*4.4x9.7mm*P0.65mm*; Footprint: Package_SO:TSSOP-28_4.4x9.7mm_P0.65mm; Supplier: http://cache.nxp.com/files/microcontrollers/doc/data_sheet/MC9S08SH32.pdf
footprint TSSOP-28_4.4x9.7mm_P0.65mm
pins: 1 PTC5 (io), 2 PTC4 (io), 3 PTA5/~{{RESET}} (io), 4 PTA4/BKGD/MS (io), 5 VDD (power), 6 VDDA/VREFH (power), 7 VSSA/VREFL (power), 8 VSS (power), 9 PTB7/EXTAL (io), 10 PTB6/XTAL (io), 11 PTB5 (io), 12 PTB4 (io), 13 PTC3 (io), 14 PTC2 (io), 15 PTC1 (io), 16 PTC0 (io), 17 PTB3 (io), 18 PTB2 (io), 19 PTB1 (io), 20 PTB0 (io), 21 PTA7 (io), 22 PTA6 (io), 23 PTA3 (io), 24 PTA2 (io), 25 PTA1 (io), 26 PTA0 (io), 27 PTC7 (io), 28 PTC6 (io)

## MC9S08SH16xWL
designator *  value MC9S08SH16xWL
ki_keywords: NXP S08 Microcontroller; ki_description: 8-bit General Purpose Microcontroller, S08 core, 16kB Flash, 1kB RAM, SOIC-28; ki_fp_filters: SOIC*7.5x17.9mm*P1.27mm*; Footprint: Package_SO:SOIC-28W_7.5x17.9mm_P1.27mm; Supplier: http://cache.nxp.com/files/microcontrollers/doc/data_sheet/MC9S08SH32.pdf
footprint SOIC-28W_7.5x17.9mm_P1.27mm
pins: 1 PTC5 (io), 2 PTC4 (io), 3 PTA5/~{{RESET}} (io), 4 PTA4/BKGD/MS (io), 5 VDD (power), 6 VDDA/VREFH (power), 7 VSSA/VREFL (power), 8 VSS (power), 9 PTB7/EXTAL (io), 10 PTB6/XTAL (io), 11 PTB5 (io), 12 PTB4 (io), 13 PTC3 (io), 14 PTC2 (io), 15 PTC1 (io), 16 PTC0 (io), 17 PTB3 (io), 18 PTB2 (io), 19 PTB1 (io), 20 PTB0 (io), 21 PTA7 (io), 22 PTA6 (io), 23 PTA3 (io), 24 PTA2 (io), 25 PTA1 (io), 26 PTA0 (io), 27 PTC7 (io), 28 PTC6 (io)

## MC9S08SH32xTG
designator *  value MC9S08SH32xTG
ki_keywords: NXP S08 Microcontroller; ki_description: 8-bit General Purpose Microcontroller, S08 core, 32kB Flash, 1kB RAM, TSSOP-16; ki_fp_filters: TSSOP*4.4x5mm*P0.65mm*; Footprint: Package_SO:TSSOP-16_4.4x5mm_P0.65mm; Supplier: http://cache.nxp.com/files/microcontrollers/doc/data_sheet/MC9S08SH32.pdf
footprint TSSOP-16_4.4x5mm_P0.65mm
pins: 1 PTA5/~{{RESET}} (io), 2 PTA4/BKGD/MS (io), 3 VDD (power), 4 VSS (power), 5 PTB7/EXTAL (io), 6 PTB6/XTAL (io), 7 PTB5 (io), 8 PTB4 (io), 9 PTB3 (io), 10 PTB2 (io), 11 PTB1 (io), 12 PTB0 (io), 13 PTA3 (io), 14 PTA2 (io), 15 PTA1 (io), 16 PTA0 (io)

## MC9S08SH32xTJ
designator *  value MC9S08SH32xTJ
ki_keywords: NXP S08 Microcontroller; ki_description: 8-bit General Purpose Microcontroller, S08 core, 32kB Flash, 1kB RAM, TSSOP-20; ki_fp_filters: TSSOP*4.4x6.5mm*P0.65mm*; Footprint: Package_SO:TSSOP-20_4.4x6.5mm_P0.65mm; Supplier: http://cache.nxp.com/files/microcontrollers/doc/data_sheet/MC9S08SH32.pdf
footprint TSSOP-20_4.4x6.5mm_P0.65mm
pins: 1 PTA5/~{{RESET}} (io), 2 PTA4/BKGD/MS (io), 3 VDD (power), 4 VSS (power), 5 PTB7/EXTAL (io), 6 PTB6/XTAL (io), 7 PTB5 (io), 8 PTB4 (io), 9 PTC3 (io), 10 PTC2 (io), 11 PTC1 (io), 12 PTC0 (io), 13 PTB3 (io), 14 PTB2 (io), 15 PTB1 (io), 16 PTB0 (io), 17 PTA3 (io), 18 PTA2 (io), 19 PTA1 (io), 20 PTA0 (io)

## MC9S08SH32xTL
designator *  value MC9S08SH32xTL
ki_keywords: NXP S08 Microcontroller; ki_description: 8-bit General Purpose Microcontroller, S08 core, 32kB Flash, 1kB RAM, TSSOP-28; ki_fp_filters: TSSOP*4.4x9.7mm*P0.65mm*; Footprint: Package_SO:TSSOP-28_4.4x9.7mm_P0.65mm; Supplier: http://cache.nxp.com/files/microcontrollers/doc/data_sheet/MC9S08SH32.pdf
footprint TSSOP-28_4.4x9.7mm_P0.65mm
pins: 1 PTC5 (io), 2 PTC4 (io), 3 PTA5/~{{RESET}} (io), 4 PTA4/BKGD/MS (io), 5 VDD (power), 6 VDDA/VREFH (power), 7 VSSA/VREFL (power), 8 VSS (power), 9 PTB7/EXTAL (io), 10 PTB6/XTAL (io), 11 PTB5 (io), 12 PTB4 (io), 13 PTC3 (io), 14 PTC2 (io), 15 PTC1 (io), 16 PTC0 (io), 17 PTB3 (io), 18 PTB2 (io), 19 PTB1 (io), 20 PTB0 (io), 21 PTA7 (io), 22 PTA6 (io), 23 PTA3 (io), 24 PTA2 (io), 25 PTA1 (io), 26 PTA0 (io), 27 PTC7 (io), 28 PTC6 (io)

## MC9S08SH32xWL
designator *  value MC9S08SH32xWL
ki_keywords: NXP S08 Microcontroller; ki_description: 8-bit General Purpose Microcontroller, S08 core, 32kB Flash, 1kB RAM, SOIC-28; ki_fp_filters: SOIC*7.5x17.9mm*P1.27mm*; Footprint: Package_SO:SOIC-28W_7.5x17.9mm_P1.27mm; Supplier: http://cache.nxp.com/files/microcontrollers/doc/data_sheet/MC9S08SH32.pdf
footprint SOIC-28W_7.5x17.9mm_P1.27mm
pins: 1 PTC5 (io), 2 PTC4 (io), 3 PTA5/~{{RESET}} (io), 4 PTA4/BKGD/MS (io), 5 VDD (power), 6 VDDA/VREFH (power), 7 VSSA/VREFL (power), 8 VSS (power), 9 PTB7/EXTAL (io), 10 PTB6/XTAL (io), 11 PTB5 (io), 12 PTB4 (io), 13 PTC3 (io), 14 PTC2 (io), 15 PTC1 (io), 16 PTC0 (io), 17 PTB3 (io), 18 PTB2 (io), 19 PTB1 (io), 20 PTB0 (io), 21 PTA7 (io), 22 PTA6 (io), 23 PTA3 (io), 24 PTA2 (io), 25 PTA1 (io), 26 PTA0 (io), 27 PTC7 (io), 28 PTC6 (io)

## MC9S08SL16xTJ
designator *  value MC9S08SL16xTJ
ki_keywords: NXP S08 Microcontroller; ki_description: 8-bit EEPROM with LIN Microcontroller, S08 core, 16kB Flash, 512B RAM, 256B EEPROM, TSSOP-20; ki_fp_filters: TSSOP*4.4x6.5mm*P0.65mm*; Footprint: Package_SO:TSSOP-20_4.4x6.5mm_P0.65mm; Supplier: http://cache.nxp.com/files/microcontrollers/doc/data_sheet/MC9S08EL32.pdf
footprint TSSOP-20_4.4x6.5mm_P0.65mm
pins: 1 ~{{RESET}} (in), 2 BKGD/MS (io), 3 VDD (power), 4 VSS (power), 5 PTB7/EXTAL (io), 6 PTB6/XTAL (io), 7 PTB5 (io), 8 PTB4 (io), 9 PTC3 (io), 10 PTC2 (io), 11 PTC1 (io), 12 PTC0 (io), 13 PTB3 (io), 14 PTB2 (io), 15 PTB1 (io), 16 PTB0 (io), 17 PTA3 (io), 18 PTA2 (io), 19 PTA1 (io), 20 PTA0 (io)

## MC9S08SL16xTL
designator *  value MC9S08SL16xTL
ki_keywords: NXP S08 Microcontroller; ki_description: 8-bit EEPROM with LIN Microcontroller, S08 core, 16kB Flash, 512B RAM, 256B EEPROM, TSSOP-28; ki_fp_filters: TSSOP*4.4x9.7mm*P0.65mm*; Footprint: Package_SO:TSSOP-28_4.4x9.7mm_P0.65mm; Supplier: http://cache.nxp.com/files/microcontrollers/doc/data_sheet/MC9S08EL32.pdf
footprint TSSOP-28_4.4x9.7mm_P0.65mm
pins: 1 PTC5 (io), 2 PTC4 (io), 3 ~{{RESET}} (in), 4 BKGD/MS (io), 5 VDD (power), 6 VDDA/VREFH (power), 7 VSSA/VREFL (power), 8 VSS (power), 9 PTB7/EXTAL (io), 10 PTB6/XTAL (io), 11 PTB5 (io), 12 PTB4 (io), 13 PTC3 (io), 14 PTC2 (io), 15 PTC1 (io), 16 PTC0 (io), 17 PTB3 (io), 18 PTB2 (io), 19 PTB1 (io), 20 PTB0 (io), 21 PTA7 (io), 22 PTA6 (io), 23 PTA3 (io), 24 PTA2 (io), 25 PTA1 (io), 26 PTA0 (io), 27 PTC7 (io), 28 PTC6 (io)

## MC9S08SL32xTJ
designator *  value MC9S08SL32xTJ
ki_keywords: NXP S08 Microcontroller; ki_description: 8-bit EEPROM with LIN Microcontroller, S08 core, 32kB Flash, 512B RAM, 256B EEPROM, TSSOP-20; ki_fp_filters: TSSOP*4.4x6.5mm*P0.65mm*; Footprint: Package_SO:TSSOP-20_4.4x6.5mm_P0.65mm; Supplier: http://cache.nxp.com/files/microcontrollers/doc/data_sheet/MC9S08EL32.pdf
footprint TSSOP-20_4.4x6.5mm_P0.65mm
pins: 1 ~{{RESET}} (in), 2 BKGD/MS (io), 3 VDD (power), 4 VSS (power), 5 PTB7/EXTAL (io), 6 PTB6/XTAL (io), 7 PTB5 (io), 8 PTB4 (io), 9 PTC3 (io), 10 PTC2 (io), 11 PTC1 (io), 12 PTC0 (io), 13 PTB3 (io), 14 PTB2 (io), 15 PTB1 (io), 16 PTB0 (io), 17 PTA3 (io), 18 PTA2 (io), 19 PTA1 (io), 20 PTA0 (io)

## MC9S08SL32xTL
designator *  value MC9S08SL32xTL
ki_keywords: NXP S08 Microcontroller; ki_description: 8-bit EEPROM with LIN Microcontroller, S08 core, 32kB Flash, 512B RAM, 256B EEPROM, TSSOP-28; ki_fp_filters: TSSOP*4.4x9.7mm*P0.65mm*; Footprint: Package_SO:TSSOP-28_4.4x9.7mm_P0.65mm; Supplier: http://cache.nxp.com/files/microcontrollers/doc/data_sheet/MC9S08EL32.pdf
footprint TSSOP-28_4.4x9.7mm_P0.65mm
pins: 1 PTC5 (io), 2 PTC4 (io), 3 ~{{RESET}} (in), 4 BKGD/MS (io), 5 VDD (power), 6 VDDA/VREFH (power), 7 VSSA/VREFL (power), 8 VSS (power), 9 PTB7/EXTAL (io), 10 PTB6/XTAL (io), 11 PTB5 (io), 12 PTB4 (io), 13 PTC3 (io), 14 PTC2 (io), 15 PTC1 (io), 16 PTC0 (io), 17 PTB3 (io), 18 PTB2 (io), 19 PTB1 (io), 20 PTB0 (io), 21 PTA7 (io), 22 PTA6 (io), 23 PTA3 (io), 24 PTA2 (io), 25 PTA1 (io), 26 PTA0 (io), 27 PTC7 (io), 28 PTC6 (io)

## MC9S08SV8CLC
designator *  value MC9S08SV8CLC
ki_keywords: NXP S08 Microcontroller; ki_description: 8-bit General Purpose Best-in-Class performance Microcontroller, S08 core, 8kB Flash, 768B RAM, LQFP-32; ki_fp_filters: LQFP*7x7mm*P0.8mm*; Footprint: Package_QFP:LQFP-32_7x7mm_P0.8mm; Supplier: http://cache.nxp.com/files/microcontrollers/doc/ref_manual/MC9S08SV16RM.pdf
footprint LQFP-32_7x7mm_P0.8mm
pins: 1 PTA4/BKGD/MS (io), 2 PTD0 (io), 3 PTD1 (io), 4 VDD (power), 5 VSS (power), 6 PTB7/EXTAL (io), 7 PTB6/XTAL (io), 8 PTB5 (io), 9 PTD3 (io), 10 PTB4 (io), 11 PTC3 (io), 12 PTC2 (io), 13 PTC1 (io), 14 PTC0 (io), 15 PTB3 (io), 16 PTD4 (io), 17 PTB2 (io), 18 PTB1 (io), 19 PTB0 (io), 20 PTA7 (io), 21 PTA6 (io), 22 PTA3 (io), 23 PTA2 (io), 24 PTA1 (io), 25 PTD5 (io), 26 PTA0 (io), 27 PTC7 (io), 28 PTC6 (io), 29 PTC5 (io), 30 PTC4 (io), 31 PTA5/~{{RESET}} (io), 32 PTD2 (io)

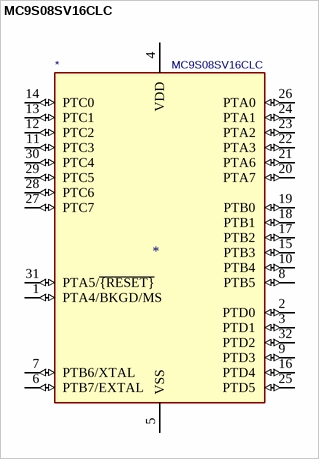
[diagram p19: symbol MC9S08SV16CLC]

## MC9S08SV16CLC
designator *  value MC9S08SV16CLC
ki_keywords: NXP S08 Microcontroller; ki_description: 8-bit General Purpose Best-in-Class performance Microcontroller, S08 core, 16kB Flash, 1kB RAM, LQFP-32; ki_fp_filters: LQFP*7x7mm*P0.8mm*; Footprint: Package_QFP:LQFP-32_7x7mm_P0.8mm; Supplier: http://cache.nxp.com/files/microcontrollers/doc/ref_manual/MC9S08SV16RM.pdf
footprint LQFP-32_7x7mm_P0.8mm
pins: 1 PTA4/BKGD/MS (io), 2 PTD0 (io), 3 PTD1 (io), 4 VDD (power), 5 VSS (power), 6 PTB7/EXTAL (io), 7 PTB6/XTAL (io), 8 PTB5 (io), 9 PTD3 (io), 10 PTB4 (io), 11 PTC3 (io), 12 PTC2 (io), 13 PTC1 (io), 14 PTC0 (io), 15 PTB3 (io), 16 PTD4 (io), 17 PTB2 (io), 18 PTB1 (io), 19 PTB0 (io), 20 PTA7 (io), 21 PTA6 (io), 22 PTA3 (io), 23 PTA2 (io), 24 PTA1 (io), 25 PTD5 (io), 26 PTA0 (io), 27 PTC7 (io), 28 PTC6 (io), 29 PTC5 (io), 30 PTC4 (io), 31 PTA5/~{{RESET}} (io), 32 PTD2 (io)